# EAGLE library part KXN_HEADER_2X4 (library kxnStandard_connector)
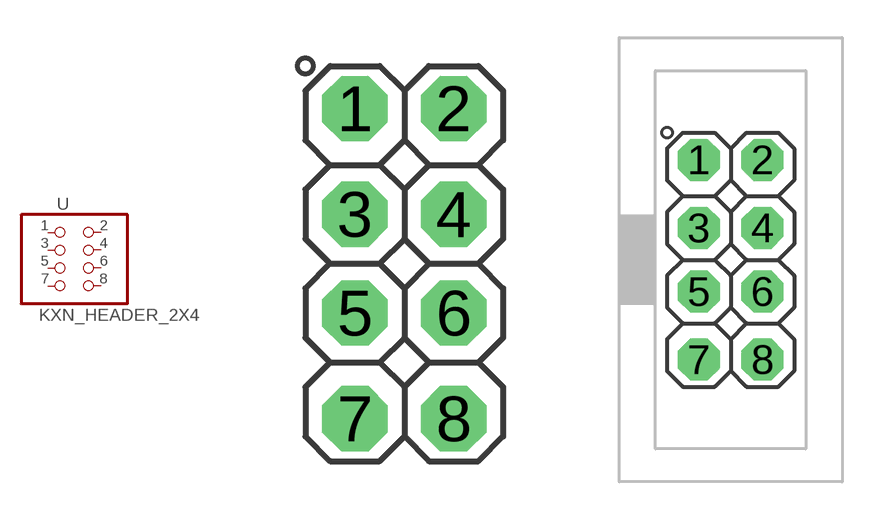
[diagram p14: symbol with the pads of HEADER_2X4_254_LOCK; footprints HEADER_2X4_254_LOCK, HEADER_2X4_254_LOCK_DC3]

Designator prefix -

## KXN_HEADER_2X4_ML (CC_SHOP: CongCo)  [HEADER_2X4_254_LOCK]
1  1  pas
2  2  pas
3  3  pas
4  4  pas
5  5  pas
6  6  pas
7  7  pas
8  8  pas

## KXN_HEADER_2X4_DC3_I (CC_SHOP: CongCo)  [HEADER_2X4_254_LOCK_DC3]
Pads as for HEADER_2X4_254_LOCK

## KXN_HEADER_2X4_DC3_I_2 (CC_SHOP: CongCo)  [HEADER_2X4_254_LOCK_DC3_2]
Pads as for HEADER_2X4_254_LOCK

## KXN_HEADER_2X4M_L_L (CC_SHOP: CongCo)  [HEADER_2X4_254_LOCK_L]
Pads as for HEADER_2X4_254_LOCK

## KXN_HEADER_2X4_DC3_L (CC_SHOP: CongCo)  [HEADER_2X4_254_LOCK_DC3_90]
Pads as for HEADER_2X4_254_LOCK

## Footprint HEADER_2X4_254_LOCK (pad centres in mm)
drill 0.95 pad 1.676 octagon: 1 -1.27,3.988; 2 1.27,3.988; 3 -1.27,1.27; 4 1.27,1.27; 5 -1.27,-1.27; 6 1.27,-1.27; 7 -1.27,-3.988; 8 1.27,-3.988

## Footprint HEADER_2X4_254_LOCK_DC3 (pad centres in mm)
https://item.taobao.com/item.htm?spm=a1z10.3-c-s.w4002-24706531953.44.df4b6a4bXdU48b&id=554625434436
drill 0.95 pad 1.676 octagon: 1 -1.27,3.988; 2 1.27,3.988; 3 -1.27,1.27; 4 1.27,1.27; 5 -1.27,-1.27; 6 1.27,-1.27; 7 -1.27,-3.988; 8 1.27,-3.988

## Footprint HEADER_2X4_254_LOCK_DC3_2 (pad centres in mm)
drill 0.95 pad 1.676 octagon: 1 -1.27,3.988; 2 1.27,3.988; 3 -1.27,1.27; 4 1.27,1.27; 5 -1.27,-1.27; 6 1.27,-1.27; 7 -1.27,-3.988; 8 1.27,-3.988

## Footprint HEADER_2X4_254_LOCK_L (pad centres in mm)
drill 0.95 pad 1.676 octagon: 1 -1.27,3.988; 2 1.27,3.988; 3 -1.27,1.27; 4 1.27,1.27; 5 -1.27,-1.27; 6 1.27,-1.27; 7 -1.27,-3.988; 8 1.27,-3.988

## Footprint HEADER_2X4_254_LOCK_DC3_90 (pad centres in mm)
drill 0.95 pad 1.676 octagon: 1 -1.27,3.988; 2 1.27,3.988; 3 -1.27,1.27; 4 1.27,1.27; 5 -1.27,-1.27; 6 1.27,-1.27; 7 -1.27,-3.988; 8 1.27,-3.988